# Altium schematic symbol library MICROSD.SchLib: 2 symbols
Pins are listed as number, name and electrical type; pins without a type are passive.

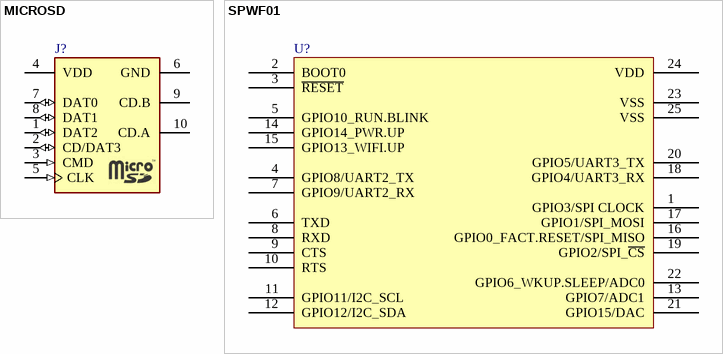
[diagram p0: symbols MICROSD to SPWF01]

## MICROSD
designator J?
Micro SD connector DM3AT-SF-PEJM5
footprint DM3BT
pins: 1 DAT2 (io), 2 CD/DAT3 (io), 3 CMD (in), 4 VDD (power), 5 CLK (in), 6 GND (power), 7 DAT0 (io), 8 DAT1 (io), 9 CD.B, 10 CD.A

## SPWF01
designator U?  (value not drawn)
UART-WIFI module
footprint CAC-152P2158X1524-24N (Chip Array, Concave, 24-Leads, Pitch 1,52mm,  Body 21,59x15,24mm,  IPC Medium Density)
pins: 1 GPIO3/SPI CLOCK, 2 BOOT0, 3 ~{RESET}, 4 GPIO8/UART2_TX, 5 GPIO10_RUN.BLINK, 6 TXD, 7 GPIO9/UART2_RX, 8 RXD, 9 CTS, 10 RTS, 11 GPIO11/I2C_SCL, 12 GPIO12/I2C_SDA, 13 GPIO7/ADC1, 14 GPIO14_PWR.UP, 15 GPIO13_WIFI.UP, 16 GPIO0_FACT.RESET/SPI_MISO, 17 GPIO1/SPI_MOSI, 18 GPIO4/UART3_RX, 19 GPIO2/SPI_~{CS}, 20 GPIO5/UART3_TX, 21 GPIO15/DAC, 22 GPIO6_WKUP.SLEEP/ADC0, 23 VSS, 24 VDD, 25 VSS